# Altium schematic symbol library Crystals.SchLib: 2 symbols
Pins are listed as number, name and electrical type; pins without a type are passive.

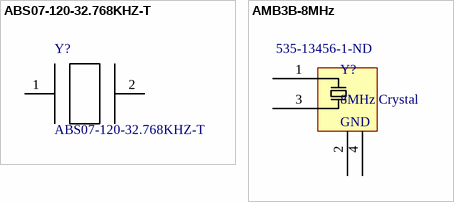
[diagram p0: symbols ABS07-120-32.768KHZ-T to AMB3B-8MHz]

## ABS07-120-32.768KHZ-T
designator Y?
3.2 x 1.5mm, 32.768KHZ Xtal 6pf, 20ppm, -40+85C, ESR 60kOhm, ST Micro Ref Design Crystal for STM32L; MF: Abracon; MP: ABS07-120-32.768KHZ-T; SnapEDA_Link: https://www.snapeda.com/parts/ABS07-120-32.768KHZ-T/Abracon%20LLC/view-part/?ref=snap; Package: SMD-2 Abracon; Price: 0.37 USD; Availability: Good; Value: *
footprint XTAL_ABS07-120-32.768KHZ-T
pins: 1, 2

## AMB3B-8MHz
designator Y?, comment 8MHz Crystal  Supplier Part Number 1: 535-13456-1-ND
8MHz Abracom 4-pin crystal.; Supplier 1: Digi-Key
footprint OSCSC500X320X110-4N
pins: 1 IN, 2 5, 3 IN, 4
text: GND